# EAGLE library part TEMP-HUM-PRES-BME280 (library Ipfcz)
Digital Humidity-Temperature-Pressure Sensor based on BME280 device More information about BME280 device is available here: https://www.bosch-sensortec.com/bst/products/all_products/bme280 Click here to find device on ebay.com <http://www.ebay.com/sch/bme280+breakout>
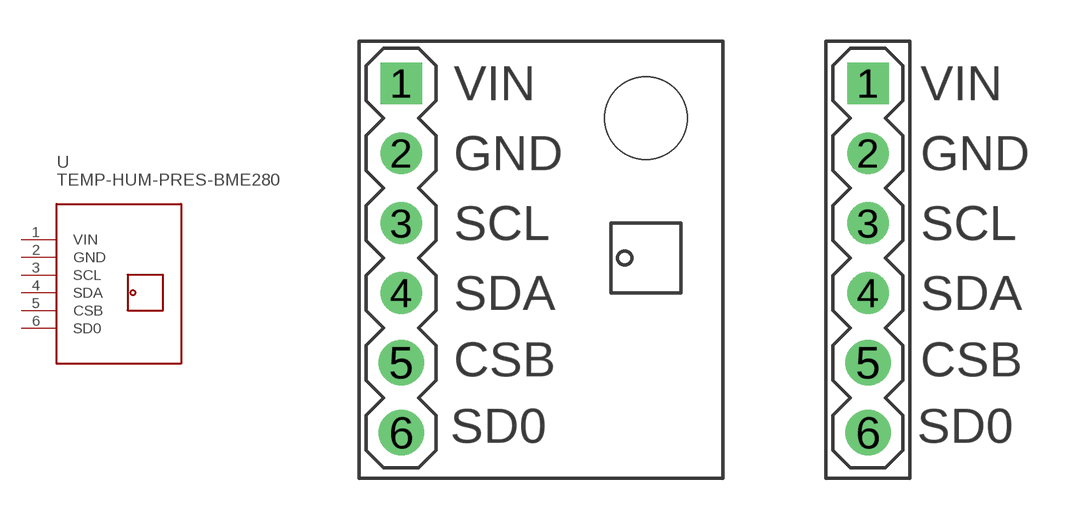
[diagram p4: symbol with the pads of TEMP-HUM-PRES-BME280; footprints TEMP-HUM-PRES-BME280, TEMP-HUM-PRES-BME280S]

Designator prefix -

## TEMP-HUM-PRES-BME280  [TEMP-HUM-PRES-BME280]
1  VIN  pwr
2  GND  pwr
3  SCL
4  SDA
5  CSB
6  SD0

## TEMP-HUM-PRES-BME280DMP280S  [TEMP-HUM-PRES-BME280S]
Pads as for TEMP-HUM-PRES-BME280

## Footprint TEMP-HUM-PRES-BME280 (pad centres in mm)
Digital Humidity-Temperature-Pressure Sensor based on BME280 device
drill 1 square: 1 -5.08,3.81
drill 1: 2 -5.08,1.27; 3 -5.08,-1.27; 4 -5.08,-3.81
drill 1.1: 5 -5.08,-6.35; 6 -5.08,-8.89
hole 3 at 3.81,2.54

## Footprint TEMP-HUM-PRES-BME280S (pad centres in mm)
Digital Humidity-Temperature-Pressure Sensor based on BME280 device
drill 1 square: 1 -5.08,3.81
drill 1: 2 -5.08,1.27; 3 -5.08,-1.27; 4 -5.08,-3.81
drill 1.1: 5 -5.08,-6.35; 6 -5.08,-8.89